# Altium footprint library Research.PcbLib: 103 footprints (part 6 of 7)
Each footprint in its own frame and in the unit in brackets; x right, y up, seen from the top. Pads: shape width x height; smd on the part's side, far side on the other; paste and mask are expansions set on the pad; w line width, h text height; cw(c..) or ccw(c..) is an arc to the next point about the centre after c.
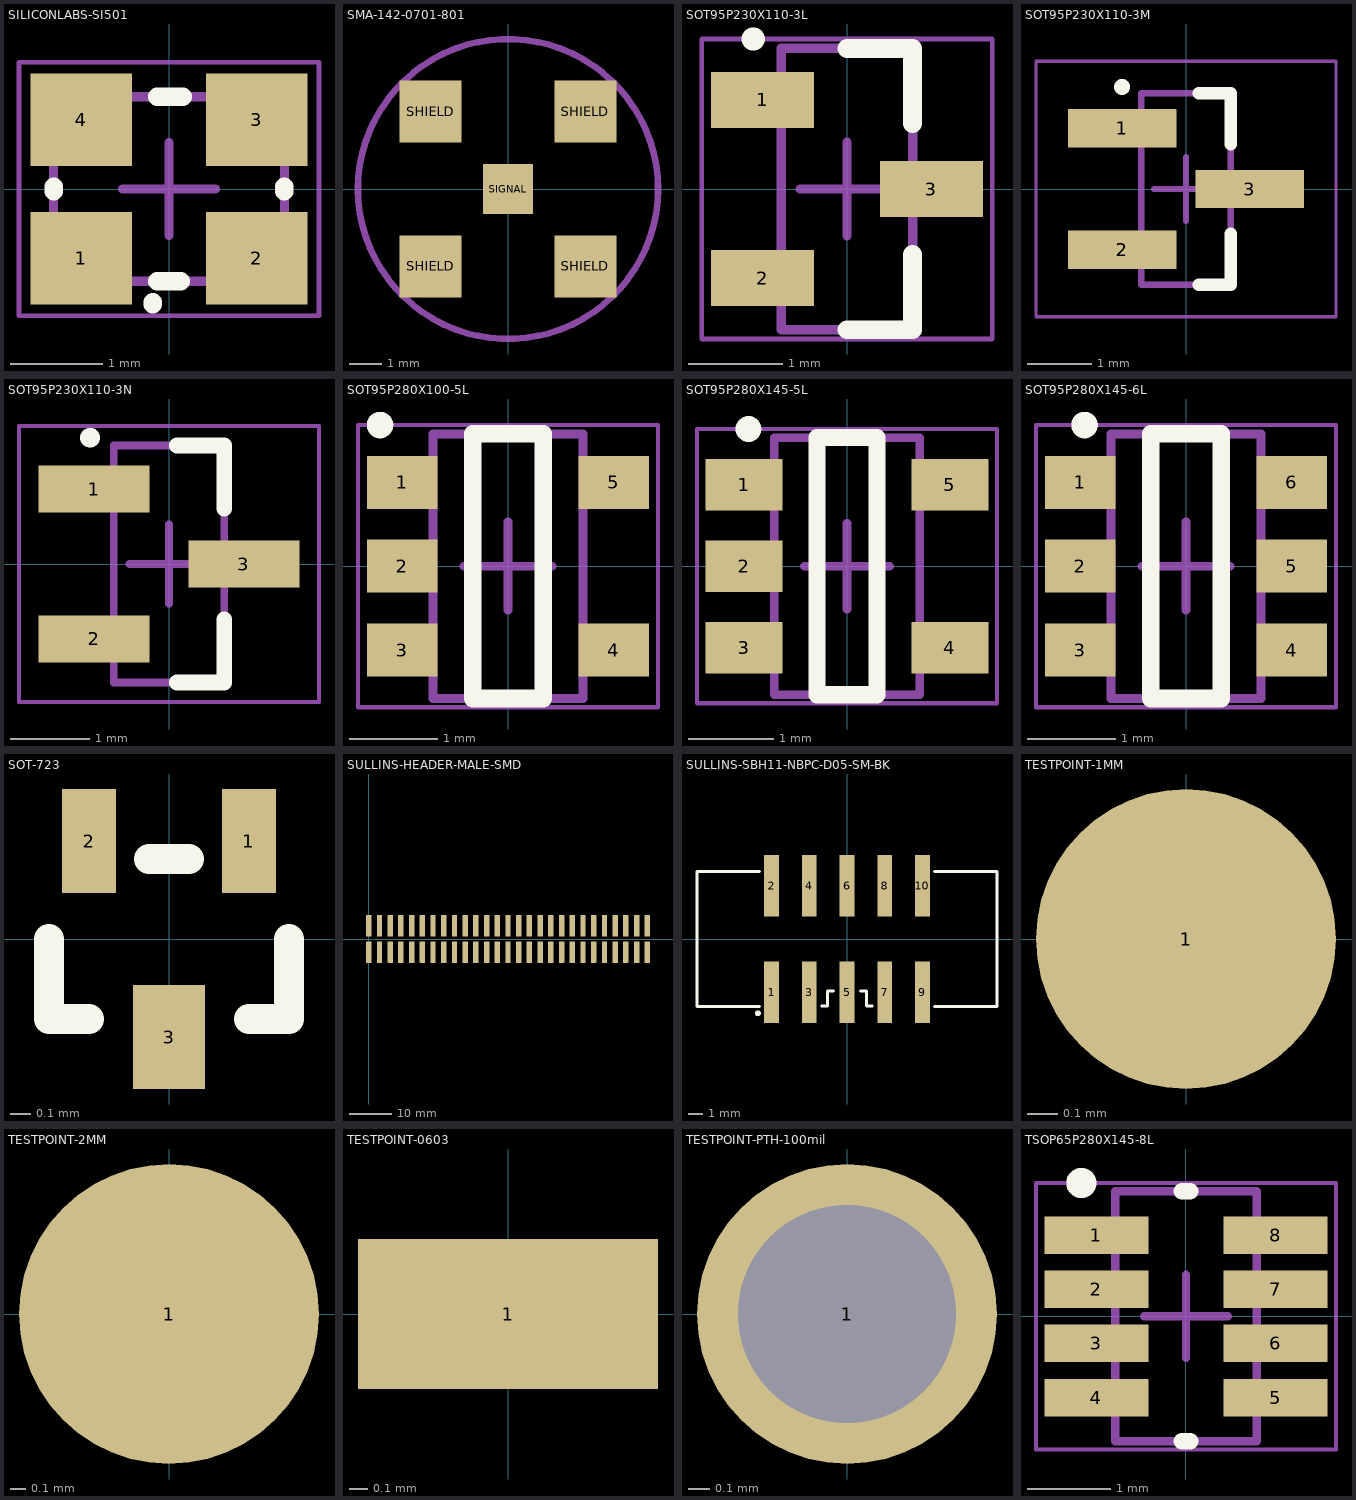
[diagram p5: the footprints below, top view; thin cyan lines are the x and y axes]

## SILICONLABS-SI501 [mm] "Silicon Labs CMEMS CMOS Clock Oscillator"
height 0.9
pads (4):
  rect 1.1x1 smd: 1(-0.95,-0.75) 2(0.95,-0.75) 3(0.95,0.75) 4(-0.95,0.75)
Top Overlay:
  lines w0.2: -1.25,-0.025 -1.25,0.025 ; -0.175,-1.25 -0.175,-1.225 ; -0.125,-1 0.125,-1 ; -0.125,1 0.15,1 ; 1.25,-0.025 1.25,0.025
Mechanical 13:
  lines w0.1: -1.25,-1 1.25,-1 1.25,1 -1.25,1 -1.25,-1
Mechanical 15:
  lines w0.05: -1.625,-1.375 1.625,-1.375 1.625,1.375 -1.625,1.375 -1.625,-1.375
  lines w0.1: -0.5,0 0.5,0 ; 0,-0.5 0,0.5
Mechanical 29:
  text ".Designator" at -1.1,-0.8 h0.4
3D body: height 0.9, standoff 0, extent -1.25,-0.9 1.25,1

## SMA-142-0701-801 [mm] "Johnson/Cinch Connectivity Solutions 142-0701-801 Edge Mount SMA Connector"
pads (5):
  rect 1.91x1.91 smd: SHIELD(-2.375,-2.375) SHIELD(-2.375,2.375) SHIELD(2.375,-2.375) SHIELD(2.375,2.375)
  rect 1.52x1.52 smd: SIGNAL(0,0)
Mechanical 13:
  circle w0.2: c0,0 r4.6
Mechanical 29:
  text ".Designator" at -2.7,-2.8 h1
3D body: height 10.13, standoff 0.6, extent -3.175,-3.193 3.2,3.194
3D body: height 0.5, standoff 0, extent -0.62,-0.624 0.625,0.624
3D body: height 0.6, standoff 0, extent -3.2,1.6 -1.6,3.2
3D body: height 0.6, standoff 0, extent 1.6,1.6 3.2,3.2
3D body: height 0.6, standoff 0, extent 1.6,-3.2 3.2,-1.6
3D body: height 0.6, standoff 0, extent -3.2,-3.2 -1.6,-1.6
3D body: height 1.5, standoff 0.51, extent -3.2,-3.2 3.2,3.2

## SOT95P230X110-3L [mm] "SOT23, 3-Leads, Body 2.90x2.30mm, Pitch 0.95mm, IPC High Density"
height 1.1
pads (3):
  rect 1.1x0.6 smd: 1(-0.9,0.95) 2(-0.9,-0.95) 3(0.9,0)
Top Overlay:
  circle w0.25: c-1,1.6 r0
  lines w0.2: 0,-1.5 0.7,-1.5 0.7,-0.7 ; 0,1.5 0.7,1.5 0.7,0.7
Mechanical 13:
  lines w0.1: -0.7,-1.5 -0.7,1.5 0.7,1.5 0.7,-1.5 -0.7,-1.5
Mechanical 15:
  lines w0.05: -1.55,-1.6 -1.55,1.6 1.55,1.6 1.55,-1.6 -1.55,-1.6
  lines w0.1: -0.5,0 0.5,0 ; 0,-0.5 0,0.5
Mechanical 29:
  text ".Designator" at 0.2,-1.3 h0.4
3D body: height 1.1, standoff 0, extent -0.7,-1.5 0.7,1.5

## SOT95P230X110-3M [mm] "SOT23, 3-Leads, Body 2.90x2.30mm, Pitch 0.95mm, IPC Low Density"
height 1.1
pads (3):
  rect 1.7x0.6 smd: 1(-1,0.95) 2(-1,-0.95) 3(1,0)
Top Overlay:
  circle w0.25: c-1,1.6 r0
  lines w0.2: 0.2,-1.5 0.7,-1.5 0.7,-0.7 ; 0.2,1.5 0.7,1.5 0.7,0.7
Mechanical 13:
  lines w0.1: -0.7,-1.5 0.7,-1.5 0.7,1.5 -0.7,1.5 -0.7,-1.5
Mechanical 15:
  lines w0.05: -2.35,-2 2.35,-2 2.35,2 -2.35,2 -2.35,-2
  lines w0.1: -0.5,0 0.5,0 ; 0,-0.5 0,0.5
3D body: height 1.1, standoff 0, extent -0.7,-1.5 0.7,1.5

## SOT95P230X110-3N [mm] "SOT23, 3-Leads, Body 2.90x2.30mm, Pitch 0.95mm, IPC Medium Density"
height 1.1
pads (3):
  rect 1.4x0.6 smd: 1(-0.95,0.95) 2(-0.95,-0.95) 3(0.95,0)
Top Overlay:
  circle w0.25: c-1,1.6 r0
  lines w0.2: 0.1,-1.5 0.7,-1.5 0.7,-0.7 ; 0.1,1.5 0.7,1.5 0.7,0.7
Mechanical 13:
  lines w0.1: -0.7,-1.5 0.7,-1.5 0.7,1.5 -0.7,1.5 -0.7,-1.5
Mechanical 15:
  lines w0.05: -1.9,-1.75 1.9,-1.75 1.9,1.75 -1.9,1.75 -1.9,-1.75
  lines w0.1: -0.5,0 0.5,0 ; 0,-0.5 0,0.5
3D body: height 1.1, standoff 0, extent -0.7,-1.5 0.7,1.5

## SOT95P280X100-5L [mm] "SOT23, 5-Leads, Body 2.90x2.80mm, Pitch 0.95mm, IPC High Density"
height 1
pads (5):
  rect 0.8x0.6 smd: 1(-1.2,0.95) 2(-1.2,0) 3(-1.2,-0.95) 4(1.2,-0.95) 5(1.2,0.95)
Top Overlay:
  circle w0.2: c-1.45,1.6 r0.05
  lines w0.2: -0.4,-1.5 0.4,-1.5 0.4,1.5 -0.4,1.5 -0.4,-1.5
Mechanical 13:
  lines w0.1: -0.85,-1.5 -0.85,1.5 0.85,1.5 0.85,-1.5 -0.85,-1.5
Mechanical 15:
  lines w0.05: -1.7,-1.6 -1.7,1.6 1.7,1.6 1.7,-1.6 -1.7,-1.6
  lines w0.1: -0.5,0 0.5,0 ; 0,-0.5 0,0.5
Mechanical 29:
  text ".Designator" at 0.3,-1.4 h0.4
3D body: height 1, standoff 0, extent -0.85,-1.5 0.85,1.5

## SOT95P280X145-5L [mm] "SOT23, 5-Leads, Body 2.90x2.80mm, Pitch 0.95mm, IPC High Density"
height 1.45
pads (5):
  rect 0.9x0.6 smd: 1(-1.2,0.95) 2(-1.2,0) 3(-1.2,-0.95) 4(1.2,-0.95) 5(1.2,0.95)
Top Overlay:
  circle w0.2: c-1.15,1.6 r0.05
  lines w0.2: -0.35,-1.5 -0.35,1.5 0.35,1.5 0.35,-1.5 -0.35,-1.5
Mechanical 13:
  lines w0.1: -0.85,-1.5 0.85,-1.5 0.85,1.5 -0.85,1.5 -0.85,-1.5
Mechanical 15:
  lines w0.05: -1.75,-1.6 1.75,-1.6 1.75,1.6 -1.75,1.6 -1.75,-1.6
  lines w0.1: -0.5,0 0.5,0 ; 0,-0.5 0,0.5
Mechanical 29:
  text ".Designator" at 0.2,-1.4 h0.4
3D body: height 1.45, standoff 0.05, extent -0.85,-1.5 0.85,1.5

## SOT95P280X145-6L [mm] "SOT23, 6-Leads, Body 2.90x2.80mm, Pitch 0.95mm, IPC High Density"
height 1.45
pads (6):
  rect 0.8x0.6 smd: 1(-1.2,0.95) 2(-1.2,0) 3(-1.2,-0.95) 4(1.2,-0.95) 5(1.2,0) 6(1.2,0.95)
Top Overlay:
  circle w0.2: c-1.15,1.6 r0.05
  lines w0.2: -0.4,-1.5 0.4,-1.5 0.4,1.5 -0.4,1.5 -0.4,-1.5
Mechanical 13:
  lines w0.1: -0.85,-1.5 -0.85,1.5 0.85,1.5 0.85,-1.5 -0.85,-1.5
Mechanical 15:
  lines w0.05: -1.7,-1.6 -1.7,1.6 1.7,1.6 1.7,-1.6 -1.7,-1.6
  lines w0.1: -0.5,0 0.5,0 ; 0,-0.5 0,0.5
Mechanical 29:
  text ".Designator" at 0.2,-1.4 h0.4
3D body: height 1.45, standoff 0, extent -0.85,-1.5 0.85,1.5

## SOT-723 [mm] "SOT-723 SMD Transistor Package"
height 0.5
pads (3):
  rect 0.27x0.52 smd: 1(0.4,0.49) 2(-0.4,0.49)
  rect 0.36x0.52 smd: 3(0,-0.49)
Top Overlay:
  lines w0.15: -0.6,0 -0.6,-0.4 -0.4,-0.4 ; -0.1,0.4 0.1,0.4 ; 0.4,-0.4 0.6,-0.4 0.6,0
3D body: height 0.5, standoff 0, extent -0.6,-0.4 0.6,0.4

## SULLINS-HEADER-MALE-SMD [mm] "CONN HEADER 54POS .100 DUAL SMD"
height 10.15
pads (54):
  rect 1.27x5.08 smd: 1(0,-3.175) 2(0,3.175) 3(2.54,-3.175) 4(2.54,3.175) 5(5.08,-3.175) 6(5.08,3.175) 7(7.62,-3.175) 8(7.62,3.175) 9(10.16,-3.175) 10(10.16,3.175) 11(12.7,-3.175) 12(12.7,3.175) 13(15.24,-3.175) 14(15.24,3.175) 15(17.78,-3.175) 16(17.78,3.175) 17(20.32,-3.175) 18(20.32,3.175) 19(22.86,-3.175) 20(22.86,3.175) 21(25.4,-3.175) 22(25.4,3.175) 23(27.94,-3.175) 24(27.94,3.175) 25(30.48,-3.175) 26(30.48,3.175) 27(33.02,-3.175) 28(33.02,3.175) 29(35.56,-3.175) 30(35.56,3.175) 31(38.1,-3.175) 32(38.1,3.175) 33(40.64,-3.175) 34(40.64,3.175) 35(43.18,-3.175) 36(43.18,3.175) 37(45.72,-3.175) 38(45.72,3.175) 39(48.26,-3.175) 40(48.26,3.175) 41(50.8,-3.175) 42(50.8,3.175) 43(53.34,-3.175) 44(53.34,3.175) 45(55.88,-3.175) 46(55.88,3.175) 47(58.42,-3.175) 48(58.42,3.175) 49(60.96,-3.175) 50(60.96,3.175) 51(63.5,-3.175) 52(63.5,3.175) 53(66.04,-3.175) 54(66.04,3.175)

## SULLINS-SBH11-NBPC-D05-SM-BK [mm] "CONN HEADR 2.54MM 10POS GOLD SMD"
pads (10):
  rect 1x4.15 smd: 1(-5.08,-3.575) 2(-5.08,3.575) 3(-2.54,-3.575) 4(-2.54,3.575) 5(0,-3.575) 6(0,3.575) 7(2.54,-3.575) 8(2.54,3.575) 9(5.08,-3.575) 10(5.08,3.575)
Top Overlay:
  circle w0.2: c-6,-5 r0.1
  lines w0.2: -5.9,-4.55 -10.1,-4.55 -10.1,4.55 -5.9,4.55 ; -1.7,-4.5 -1.3,-4.5 -1.3,-3.5 -0.9,-3.5 ; 0.9,-3.5 1.3,-3.5 1.3,-4.5 1.7,-4.5 ; 5.9,-4.55 10.1,-4.55 10.1,4.55 5.9,4.55

## TESTPOINT-1MM [mm] "Test point, 1 mm"
pads (1):
  round 1 smd paste-10 mask-0.1: 1(0,0)

## TESTPOINT-2MM [mm] "Test point, 2 mm"
pads (1):
  round 2 smd paste-10 mask-0.2: 1(0,0)

## TESTPOINT-0603 [mm] "Test point, 0603 footprint"
pads (1):
  rect 1.6x0.8 smd paste-10 mask-0.1: 1(0,0)
3D body: height 1.12, standoff -0.03, extent -0.8,-0.45 0.8,0.45

## TESTPOINT-PTH-100mil [mil] "Test point, PTH, 0.1\" Header"
pads (1):
  round 55 hole 40 paste-393.7 mask+0: 1(0,0)

## TSOP65P280X145-8L [mm] "TSOP, 8-Leads, Body 2.90x1.60mm, Pitch 0.65mm, IPC High Density"
height 1.45
pads (8):
  rect 1.25x0.45 smd: 1(-1.075,0.975) 2(-1.075,0.325) 3(-1.075,-0.325) 4(-1.075,-0.975) 5(1.075,-0.975) 6(1.075,-0.325) 7(1.075,0.325) 8(1.075,0.975)
Top Overlay:
  circle w0.25: c-1.256,1.6 r0.056
  lines w0.2: -0.05,-1.5 0.05,-1.5 ; -0.05,1.5 0.05,1.5
Mechanical 13:
  lines w0.1: -0.85,-1.5 -0.85,1.5 0.85,1.5 0.85,-1.5 -0.85,-1.5
Mechanical 15:
  lines w0.05: -1.8,-1.6 -1.8,1.6 1.8,1.6 1.8,-1.6 -1.8,-1.6
  lines w0.1: -0.5,0 0.5,0 ; 0,-0.5 0,0.5
3D body: height 1.45, standoff 0.05, extent -0.85,-1.5 0.85,1.5